# EAGLE library part CHROMECAST-PSU (library chromecast-psu)
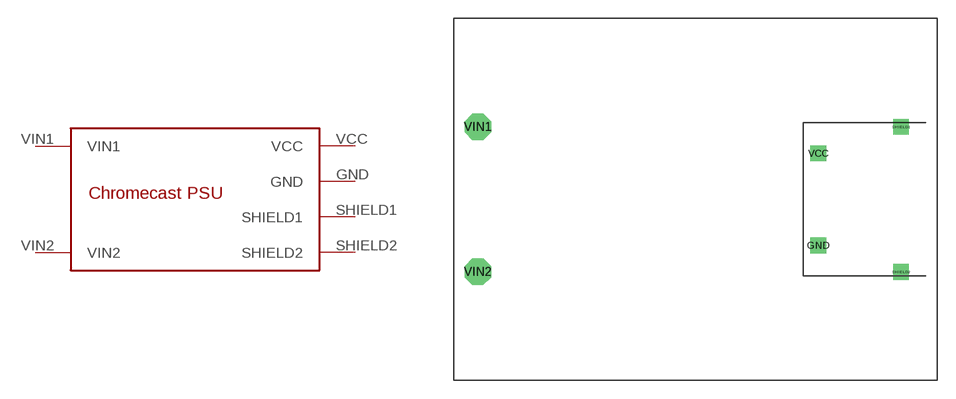
[diagram p0: symbol with the pads of CHROMECAST-PSU-UPSIDE-DOWN; footprint CHROMECAST-PSU-UPSIDE-DOWN]

Designator prefix -

## CHROMECAST-PSU  [CHROMECAST-PSU-UPSIDE-DOWN]
GND  GND
SHIELD1  SHIELD1
SHIELD2  SHIELD2
VCC  VCC
VIN1  VIN1
VIN2  VIN2

## Footprint CHROMECAST-PSU-UPSIDE-DOWN (pad centres in mm)
drill 0.8 square: GND 10.16,-3.81; SHIELD1 17,6; SHIELD2 17,-6; VCC 10.16,3.81
drill 0.8 pad 2.184 octagon: VIN1 -18,6; VIN2 -18,-6